# Altium schematic symbol library 4328.SchLib: 1 symbol
Pins are listed as number, name and electrical type; pins without a type are passive.

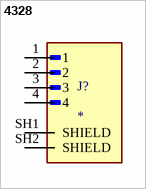
[diagram p0: symbol 4328]

## 4328
designator J?
Adafruit Accessories JST SH 4-pin Vertical Connector (10-pack) - Qwiic Compatible; MP: 4328; SnapEDA_Link: https://www.snapeda.com/parts/4328/Adafruit+Industries/view-part/?ref=snap; Package: None; Value: *; MF: Adafruit; Check_prices: https://www.snapeda.com/parts/4328/Adafruit+Industries/view-part/?ref=eda
footprint ADAFRUIT_4328
pins: 1, 2, 3, 4, SH1 SHIELD, SH2 SHIELD